# EAGLE library part WE-HV-LAN-TRANSFORMER-10/100BT(WITHOUT-CMC)-749014010 (library Wurth_Elektronik_Passive_rev16c)
WE-LAN HV LAN-Transformer Characteristics: •Compliant with IEEE802.3 and 802.3af standards •Operating temperature: 0 °C to +70 °C •SMD •4 kV Hipot test Applications: •Ethernet •Compliant with most IC's for Ethernet applications like Intel, AMD, Conexant, Realtek, etc. •Hub, Router, Switches, medical applications <http://katalog.we-online.de/media/images/v2/Family_WE-LAN.jpg> Details see: http://katalog.we-online.de/en/pbs/WE-LAN/749014010? Updated by Dan Xu 2014-07-08 2014 (C) Würth Elektronik
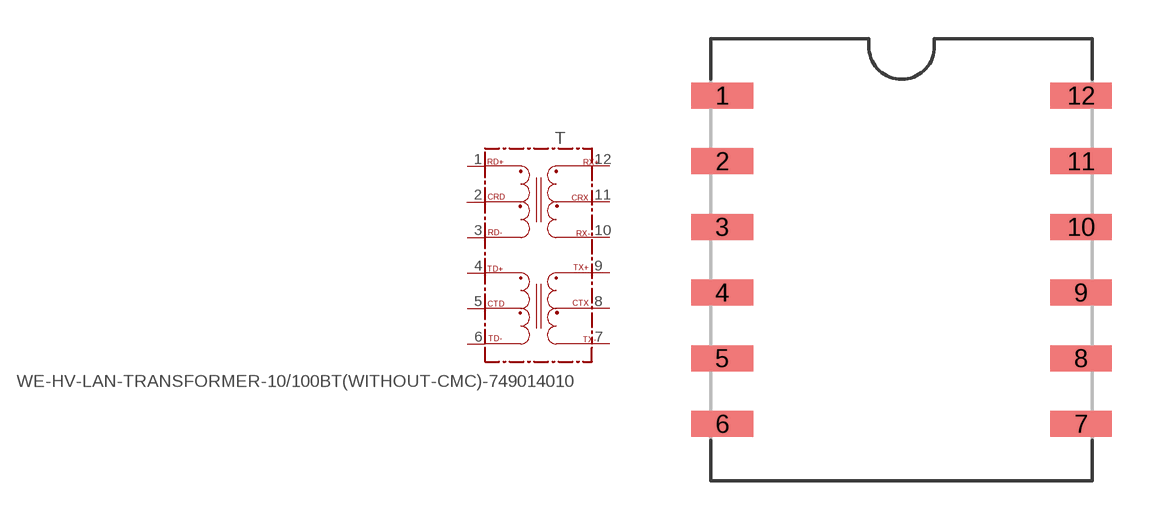
[diagram p104: symbol with the pads of 749014010; footprint 749014010]

Designator prefix T

## WE-HV-LAN-TRANSFORMER-10/100BT(WITHOUT-CMC)-749014010 (COMPANY-URL: http://www.we-online.de; CREATED-BY: Christin Zierenner; CREATED-DATE: July 2012; DATASHEET-URL: http://katalog.we-online.de/kataloge/eisos/media/pdf/749014010.pdf; MANUFACTURER: Würth Elektronik eiSos GmbH)  [749014010]
1  RD+
2  CRD
3  RD-
4  TD+
5  CTD
6  TD-
7  TX-
8  CTX
9  TX+
10  RX-
11  CRX
12  RX+

## Footprint 749014010 (pad centres in mm)
MAX Height=8.40 mm
smd 2.39 x 1: 1 -6.935,6.35; 2 -6.935,3.81; 3 -6.935,1.27; 4 -6.935,-1.27; 5 -6.935,-3.81; 6 -6.935,-6.35; 7 6.935,-6.35; 8 6.935,-3.81; 9 6.935,-1.27; 10 6.935,1.27; 11 6.935,3.81; 12 6.935,6.35